# Altium footprint library PG4D.PcbLib: 37 footprints (part 1 of 3)
Each footprint in its own frame and in the unit in brackets; x right, y up, seen from the top. Pads: shape width x height; smd on the part's side, far side on the other; paste and mask are expansions set on the pad; w line width, h text height; cw(c..) or ccw(c..) is an arc to the next point about the centre after c.
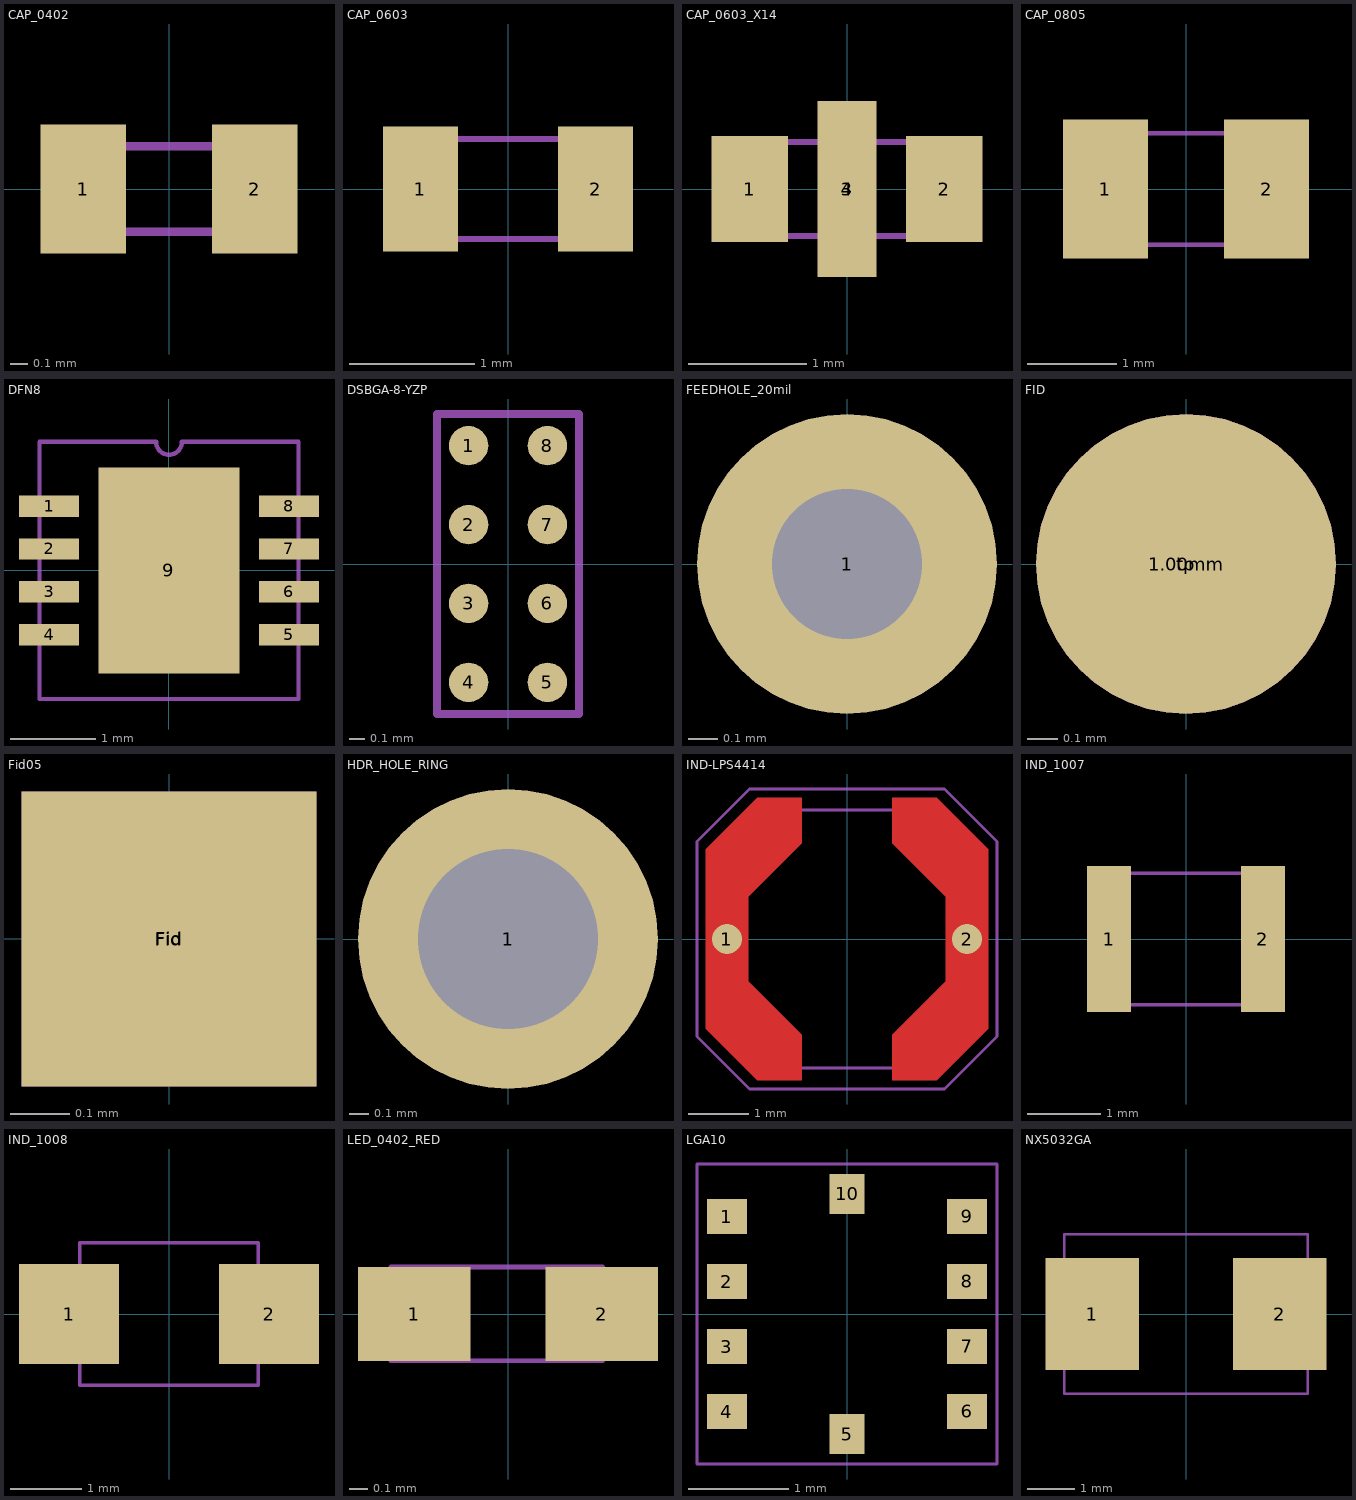
[diagram p0: the footprints below, top view; thin cyan lines are the x and y axes]

## CAP_0402 [mm] "0402 case"
pads (2):
  rect 0.5x0.75 smd: 1(-0.5,0) 2(0.5,0)
Top Assy:
  lines w0.05: -0.5,-0.25 0.5,-0.25 0.5,0.25 -0.5,0.25 -0.5,-0.25
3D body: height 0.5, standoff 0, extent -0.5,-0.25 0.5,0.25

## CAP_0603 [mm] "0603 case"
pads (2):
  rect 0.6x1 smd: 1(-0.7,0) 2(0.7,0)
Top Assy:
  lines w0.05: -0.8,-0.4 0.8,-0.4 0.8,0.4 -0.8,0.4 -0.8,-0.4
  text "1" at -1.2,-0.05 h0.3
3D body: height 0.6, standoff 0, extent -0.8,-0.4 0.8,0.4

## CAP_0603_X14 [mm] "0603 package 1.6 x 0.8 mm"
height 0.66
pads (4):
  rect 0.65x0.9 smd: 1(-0.825,0) 2(0.825,0)
  rect 0.5x1.5 smd: 3(0,0) 4(0,0)
Top Assy:
  lines w0.05: -0.8,-0.4 0.8,-0.4 0.8,0.4 -0.8,0.4 -0.8,-0.4
3D body: height 0.6, standoff 0, extent -0.8,-0.4 0.8,0.4

## CAP_0805 [mm] "0805 case"
pads (2):
  rect 0.95x1.55 smd: 1(-0.9,0) 2(0.9,0)
Top Assy:
  lines w0.05: -1,-0.625 -1,0.625 1,0.625 1,-0.625 -1,-0.625
3D body: height 0.6, standoff 0, extent -1,-0.625 1,0.625

## DFN8 [mm] "8-Lead Plastic DFN 3.00 x 3.00"
height 0.8
pads (9):
  rect 0.7x0.25 smd: 1(-1.4,0.75) 2(-1.4,0.25) 3(-1.4,-0.25) 4(-1.4,-0.75) 5(1.4,-0.75) 6(1.4,-0.25) 7(1.4,0.25) 8(1.4,0.75)
  rect 1.65x2.4 smd: 9(0,0)
Top Assy:
  lines w0.05: -1.51,-1.5 1.51,-1.5 1.51,1.5 0.15,1.5 cw(c0,1.5) -0.15,1.5 -1.51,1.5 -1.51,-1.5
  text "1" at -1.9,0.65 h0.3
3D body: height 0.8, standoff 0, extent -1.51,-1.5 1.51,1.5

## DSBGA-8-YZP [mm] "BGA 8 ball 0.5mm"
height 0.5
pads (8):
  round 0.25 smd paste+0.025 mask+0.05: 1(-0.25,0.75) 2(-0.25,0.25) 3(-0.25,-0.25) 4(-0.25,-0.75) 5(0.25,-0.75) 6(0.25,-0.25) 7(0.25,0.25) 8(0.25,0.75)
Top Assy:
  lines w0.05: -0.45,-0.95 0.45,-0.95 0.45,0.95 -0.45,0.95 -0.45,-0.95
  text "1" at -0.7,0.5 h0.5
3D body: height 0.5, standoff 0, extent -0.45,-0.95 0.45,0.95

## FEEDHOLE_20mil [mil] "Feedthrough hole 20mil"
pads (1):
  round 40 hole 20: 1(0,0)

## FID [mm] "Fiducial Pad 1.0 mm"
height 0.035
pads (2):
  round 1 smd paste-1 mask+0.4: 1.00mm(0,0)
  round 1 on Mech2 paste+0 mask+0: tp(0,0)
3D body: height 0.04, standoff 0, extent -0.496,-0.499 0.5,0.499

## Fid05 [mm] "Fiducial 0.5 mm x 0.5 mm"
height 0.035
pads (2):
  rect 0.5x0.5 on Mech2 paste+0 mask+0: Fid(0,0)
  rect 0.5x0.5 smd paste-1 mask+0.25: Fid(0,0)
3D body: height 0.04, standoff 0, extent -0.25,-0.25 0.25,0.25

## HDR_HOLE_RING [mil] "Single 0.1\" header hole with overlay"
pads (1):
  round 60 hole 36: 1(0,0)

## IND-LPS4414 [mm] "2-Leads SMD Inductor"
height 1.4
pads (2):
  round 0.5 smd mask-1: 1(-2,0) 2(2,0)
Top Layer:
  region: -2.35,1.5 -2.35,-1.5 -1.5,-2.35 -0.75,-2.35 -0.75,-1.6 -1.65,-0.7 -1.65,0.7 -0.75,1.6 -0.75,2.35 -1.5,2.35
  region: 2.35,-1.5 2.35,1.5 1.5,2.35 0.75,2.35 0.75,1.6 1.65,0.7 1.65,-0.7 0.75,-1.6 0.75,-2.35 1.5,-2.35
Top Assy:
  lines w0.05: -2.15,-1.5 -1.5,-2.15 1.5,-2.15 2.15,-1.5 2.15,1.5 1.5,2.15 -1.5,2.15 -2.15,1.5 -2.15,-1.5
Mechanical 15:
  lines w0.05: -2.5,-1.625 -1.625,-2.5 1.625,-2.5 2.5,-1.625 2.5,1.625 1.625,2.5 -1.625,2.5 -2.5,1.625 -2.5,-1.625
3D body: height 0.02, standoff 0, extent -2.35,-2.35 -0.75,2.35
3D body: height 0.02, standoff 0, extent 0.75,-2.35 2.35,2.35
3D body: height 1.4, standoff 0, extent -2.2,-2.2 2.2,2.2

## IND_1007 [mm] "2-Leads Inductor 1007 (2518)"
height 2
pads (2):
  rect 0.6x2 smd: 1(-1.05,0) 2(1.05,0)
Top Assy:
  lines w0.05: -1.25,-0.9 -1.25,0.9 1.25,0.9 1.25,-0.9 -1.25,-0.9
3D body: height 2, standoff 0, extent -1.25,-0.9 1.25,0.9

## IND_1008 [mm] "2-Leads Inductor 1008 (2520)"
height 1.8
pads (2):
  rect 1.4x1.4 smd: 1(-1.4,0) 2(1.4,0)
Top Assy:
  lines w0.05: -1.25,-1 1.25,-1 1.25,1 -1.25,1 -1.25,-1
3D body: height 1.8, standoff 0, extent -1.25,-1 1.25,1

## LED_0402_RED [mm] "2-Leads SMD LED 1.00 x 0.50 mm"
height 0.5
pads (2):
  rect 0.6x0.5 smd: 1(-0.5,0) 2(0.5,0)
Top Assy:
  lines w0.025: -0.6,-0.25 -0.6,0.25 ; -0.575,-0.25 -0.575,0.25 ; -0.55,-0.25 -0.55,0.25 ; -0.525,-0.25 -0.525,0.25 ; -0.625,-0.25 -0.625,0.25 ; -0.625,-0.25 -0.625,0.25 ; -0.625,-0.25 -0.505,-0.25 ; -0.625,0.25 -0.505,0.25 ; -0.625,0.25 -0.625,0.25 ; -0.505,-0.25 0.505,-0.25 0.505,0.25 -0.505,0.25 ; -0.505,-0.25 -0.505,0.25 ; -0.505,-0.25 -0.505,-0.25
  text "K" at -0.45,-0.1 h0.3
3D body: height 0.45, standoff 0, extent -0.505,-0.25 0.505,0.25

## LGA10 [mm] "10-Leads LGA 3 x 3 x 0.9"
height 0.91
pads (10):
  rect 0.4x0.35 smd: 1(-1.2,0.975) 2(-1.2,0.325) 3(-1.2,-0.325) 4(-1.2,-0.975) 6(1.2,-0.975) 7(1.2,-0.325) 8(1.2,0.325) 9(1.2,0.975)
  rect 0.35x0.4 smd: 5(0,-1.2) 10(0,1.2)
Top Assy:
  lines w0.025: -1.5,-1.5 -1.5,1.5 1.5,1.5 1.5,-1.5 -1.5,-1.5
3D body: height 0.9, standoff 0, extent -1.5,-1.5 1.5,1.5

## NX5032GA [mm] "2-Leads SMD Crystal"
height 1.5
pads (2):
  rect 2x2.4 smd: 1(-2,0) 2(2,0)
Top Assy:
  lines w0.05: -2.6,-1.7 2.6,-1.7 2.6,1.7 -2.6,1.7 -2.6,-1.7
3D body: height 1.5, standoff 0, extent -2.6,-1.7 2.6,1.7